# Altium schematic symbol library Power_Inductor.SchLib: 38 symbols
Pins are listed as number, name and electrical type; pins without a type are passive.

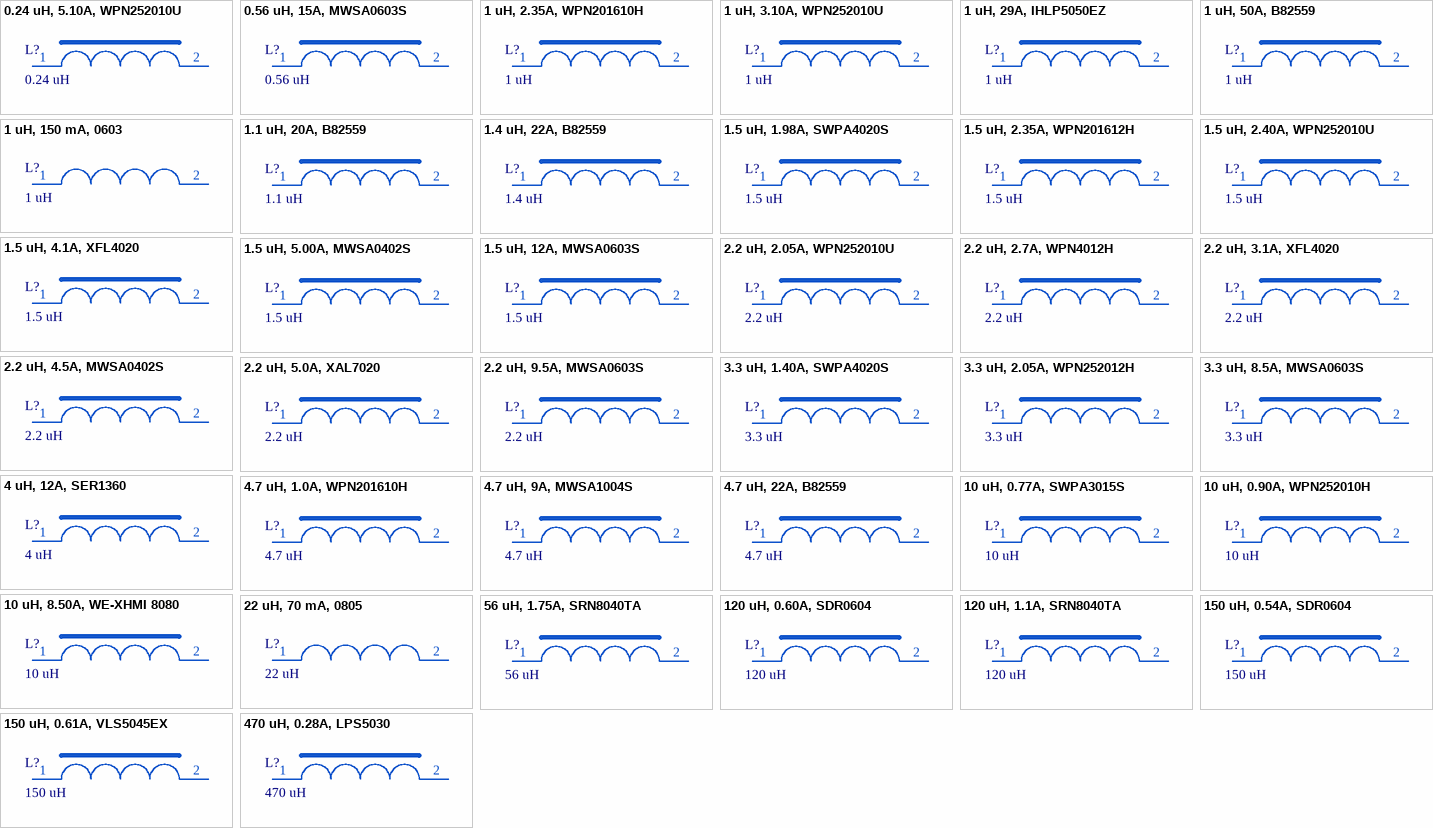
[diagram p0: symbols 0.24 uH, 5.10A, WPN252010U to 470 uH, 0.28A, LPS5030]

## 0.24 uH, 5.10A, WPN252010U
designator L?, comment 0.24 uH
Wire Wound Molded SMD Power Inductor; PartNumber: WPN252010UR24MT; Manufacturer: Sunlord; RDC: 0.021 Ohm; Irms  Typ: 5.10 A; Isat  Typ: 10.00 A; Value: 0.24 uH; Package: 2.5mm x 2mm; ItemType: Inductor; ItemSubType: Power Inductor; Mounting: SMD
footprint WPN252010U
pins: 1, 2

## 0.56 uH, 15A, MWSA0603S
designator L?, comment 0.56 uH
Wire Wound Molded SMD Power Inductor; PartNumber: MWSA0603S-R56MT; Manufacturer: Sunlord; RDC: 4.5 mOhm; Irms  Max: 15.00 A; Irms  Typ: 16.50 A; Isat  Max: 14.40 A; Isat  Typ: 18.00 A; Marking: R56; Value: 0.56 uH; Package: 6.6mm x 7mm; ItemType: Inductor; ItemSubType: Power Inductor; Mounting: SMD
footprint MWSA0603S
pins: 1, 2

## 1 uH, 2.35A, WPN201610H
designator L?, comment 1 uH
Wire Wound Molded SMD Power Inductor; PartNumber: WPN201610H1R0MT; Manufacturer: Sunlord; RDC: 0.075 Ohm; Irms  Typ: 2.35 A; Isat  Typ: 3.85 A; Value: 1 uH; Package: 2mm x 1.6mm; ItemType: Inductor; ItemSubType: Power Inductor; Mounting: SMD
footprint WPN201610H
pins: 1, 2

## 1 uH, 3.10A, WPN252010U
designator L?, comment 1 uH
Wire Wound Molded SMD Power Inductor; PartNumber: WPN252010U1R0MT; Manufacturer: Sunlord; RDC: 0.05 Ohm; Irms  Typ: 3.10 A; Isat  Typ: 4.10 A; Value: 1 uH; Package: 2.5mm x 2mm; ItemType: Inductor; ItemSubType: Power Inductor; Mounting: SMD
footprint WPN252010U
pins: 1, 2

## 1 uH, 29A, IHLP5050EZ
designator L?, comment 1 uH
Low Profile, High Current IHLP Inductor; PartNumber: IHLP5050EZER1R0M01; Manufacturer: Vishay; RDC: 2.1 mOhm; Irms  Typ: 29.00 A; Isat  Typ: 50.00 A; Marking: 1R0; ItemSubType: Power Inductor; Value: 1 uH; Package: 12.9mm x 13.2mm; ItemType: Inductor; Mounting: SMD
footprint IHLP-5050EZ-01 (Vishay High Current IHLP Inductors)
pins: 1, 2

## 1 uH, 50A, B82559
designator L?, comment 1 uH
ERU 20, helically wound chokes; PartNumber: B82559A2102A020; Manufacturer: EPCOS; RDC: 0.65 mOhm; Isat  Typ: 50 A; ItemType: Inductor; ItemSubType: Power Inductor; Value: 1 uH; Package: 22mm x 22.3mm; Mounting: SMD
footprint B82559A2102A020 (EPCOS B82559A2102A020)
pins: 1, 2

## 1 uH, 150 mA, 0603
designator L?, comment 1 uH
Chip Coil 0603; PartNumber: LQM18FN1R0M00D; Manufacturer: Murata; RDC: 0.2 Ohm; Irms  Typ: 150 mA; ItemType: Inductor; ItemSubType: Power Inductor; Value: 1 uH; Package: 0603; Mounting: SMD
footprint L0603_LQM (RF Inductor 0603)
pins: 1, 2

## 1.1 uH, 20A, B82559
designator L?, comment 1.1 uH
ERU 13, helically wound chokes; PartNumber: B82559A0112A013; Manufacturer: EPCOS; RDC: 1.72 mOhm; Isat  Typ: 20 A; ItemType: Inductor; ItemSubType: Power Inductor; Value: 1.1 uH; Package: 10.7mm x 13mm; Mounting: SMD
footprint B82559A0112A013 (EPCOS B82559A0112A013)
pins: 1, 2

## 1.4 uH, 22A, B82559
designator L?, comment 1.4 uH
ERU 13, helically wound chokes; PartNumber: B82559A0142A013; Manufacturer: EPCOS; RDC: 1.50 mOhm; Isat  Typ: 22 A; ItemType: Inductor; ItemSubType: Power Inductor; Value: 1.4 uH; Package: 10.7mm x 13mm; Mounting: SMD
footprint B82559A0142A013 (EPCOS B82559A0142A013)
pins: 1, 2

## 1.5 uH, 1.98A, SWPA4020S
designator L?, comment 1.5 uH
Wire Wound Molded SMD Power Inductor; PartNumber: SWPA4020S1R5NT; Manufacturer: Sunlord; RDC: 3.5 mOhm; Irms  Max: 1.98 A; Irms  Typ: 3.00 A; Isat  Max: 4.45 A; Isat  Typ: 4.90 A; Marking: 1R5; Value: 1.5 uH; Package: 4mm x 4mm; ItemType: Inductor; ItemSubType: Power Inductor; Mounting: SMD
footprint SWPA4020S
pins: 1, 2

## 1.5 uH, 2.35A, WPN201612H
designator L?, comment 1.5 uH
Wire Wound Molded SMD Power Inductor; PartNumber: WPN201612H1R5MT; Manufacturer: Sunlord; RDC: 0.091 Ohm; Irms  Typ: 2.35 A; Isat  Typ: 2.45 A; Value: 1.5 uH; Package: 2mm x 1.6mm; ItemType: Inductor; ItemSubType: Power Inductor; Mounting: SMD
footprint WPN201612H
pins: 1, 2

## 1.5 uH, 2.40A, WPN252010U
designator L?, comment 1.5 uH
Wire Wound Molded SMD Power Inductor; PartNumber: WPN252010U1R5MT; Manufacturer: Sunlord; RDC: 0.076 Ohm; Irms  Typ: 2.40 A; Isat  Typ: 3.00 A; Value: 1.5 uH; Package: 2.5mm x 2mm; ItemType: Inductor; ItemSubType: Power Inductor; Mounting: SMD
footprint WPN252010U
pins: 1, 2

## 1.5 uH, 4.1A, XFL4020
designator L?, comment 1.5 uH
Wire Wound Molded SMD Power Inductor; PartNumber: XFL4020-152ME; Manufacturer: Coilcraft; RDC: 14.40 mOhm; Irms  Typ: 6.7 A; Isat  Typ: 4.1 A; Marking: 152; Value: 1.5 uH; Package: 4mm x 4mm; ItemType: Inductor; ItemSubType: Power Inductor; Mounting: SMD
footprint XFL4020 (Shielded Power Inductor)
pins: 1, 2

## 1.5 uH, 5.00A, MWSA0402S
designator L?, comment 1.5 uH
Wire Wound Molded SMD Power Inductor; PartNumber: MWSA0402S-1R5MT; Manufacturer: Sunlord; RDC: 46 mOhm; Irms  Typ: 5.00 A; Isat  Typ: 5.50 A; Marking: 1R5; Value: 1.5 uH; Package: 4.2mm x 4.4mm; ItemType: Inductor; ItemSubType: Power Inductor; Mounting: SMD
footprint MWSA0402S
pins: 1, 2

## 1.5 uH, 12A, MWSA0603S
designator L?, comment 1.5 uH
Wire Wound Molded SMD Power Inductor; PartNumber: MWSA0603S-1R5MT; Manufacturer: Sunlord; RDC: 12.1 mOhm; Irms  Typ: 12.00 A; Marking: 1R5; Value: 1.5 uH; Package: 6.6mm x 7mm; Isat  Typ: 12.00 A; ItemType: Inductor; ItemSubType: Power Inductor; Mounting: SMD
footprint MWSA0603S
pins: 1, 2

## 2.2 uH, 2.05A, WPN252010U
designator L?, comment 2.2 uH
Wire Wound Molded SMD Power Inductor; PartNumber: WPN252010U2R2MT; Manufacturer: Sunlord; RDC: 0.096 Ohm; Irms  Typ: 2.05 A; Isat  Typ: 2.60 A; Value: 2.2 uH; Package: 2.5mm x 2mm; ItemType: Inductor; ItemSubType: Power Inductor; Mounting: SMD
footprint WPN252010U
pins: 1, 2

## 2.2 uH, 2.7A, WPN4012H
designator L?, comment 2.2 uH
Wire Wound Molded SMD Power Inductor; PartNumber: WPN4012H2R2MT; Manufacturer: Sunlord; RDC: 79 mOhm; Irms  Typ: 3.10 A; Isat  Typ: 3.30 A; Marking: 2R2; Value: 2.2 uH; Package: 4x4mm; ItemType: Inductor; ItemSubType: Power Inductor; Mounting: SMD
footprint WPN4012H (Wire Wound SMD Power Inductors WPN Series)
pins: 1, 2

## 2.2 uH, 3.1A, XFL4020
designator L?, comment 2.2 uH
Wire Wound Molded SMD Power Inductor; PartNumber: XFL4020-222ME; Manufacturer: Coilcraft; RDC: 21.35 mOhm; Irms  Typ: 6.0 A; Isat  Typ: 3.1 A; Marking: 222; Value: 2.2 uH; Package: 4mm x 4mm; ItemType: Inductor; ItemSubType: Power Inductor; Mounting: SMD
footprint XFL4020 (Shielded Power Inductor)
pins: 1, 2

## 2.2 uH, 4.5A, MWSA0402S
designator L?, comment 2.2 uH
Wire Wound Molded SMD Power Inductor; PartNumber: MWSA0402S-2R2MT; Manufacturer: Sunlord; RDC: 58 mOhm; Irms  Typ: 4.50 A; Isat  Typ: 5.00 A; Marking: 2R2; Value: 2.2 uH; Package: 4.2mm x 4.4mm; ItemType: Inductor; ItemSubType: Power Inductor; Mounting: SMD
footprint MWSA0402S
pins: 1, 2

## 2.2 uH, 5.0A, XAL7020
designator L?, comment 2.2 uH
Wire Wound Molded SMD Power Inductor; PartNumber: XAL7020-222ME; Manufacturer: Coilcraft; RDC: 28.70 mOhm; Irms  Typ: 5.0 A; Isat  Typ: 13.6 A; Marking: 222; Value: 2.2 uH; Package: 7.5mm x 7.5mm; ItemType: Inductor; ItemSubType: Power Inductor; Mounting: SMD
footprint XAL7020 (Shielded Power Inductor)
pins: 1, 2

## 2.2 uH, 9.5A, MWSA0603S
designator L?, comment 2.2 uH
Wire Wound Molded SMD Power Inductor; PartNumber: MWSA0603S-2R2MT; Manufacturer: Sunlord; RDC: 15 mOhm; Irms  Typ: 9.50 A; Isat  Typ: 10.00 A; Marking: 2R2; Value: 2.2 uH; Package: 6.6mm x 7mm; ItemType: Inductor; ItemSubType: Power Inductor; Mounting: SMD
footprint MWSA0603S
pins: 1, 2

## 3.3 uH, 1.40A, SWPA4020S
designator L?, comment 3.3 uH
Wire Wound Molded SMD Power Inductor; PartNumber: SWPA4020S3R3MT; Manufacturer: Sunlord; RDC: 7 mOhm; Irms  Max: 1.40 A; Irms  Typ: 2.50 A; Isat  Max: 2.80 A; Isat  Typ: 3.00 A; Value: 3.3 uH; Package: 4mm x 4mm; ItemType: Inductor; ItemSubType: Power Inductor; Mounting: SMD
footprint SWPA4020S
pins: 1, 2

## 3.3 uH, 2.05A, WPN252012H
designator L?, comment 3.3 uH
Wire Wound Molded SMD Power Inductor; PartNumber: WPN252012H3R3MT; Manufacturer: Sunlord; RDC: 0.163 Ohm; Irms  Typ: 2.05 A; Isat  Typ: 2.10 A; Value: 3.3 uH; Package: 2.5mm x 2mm; ItemType: Inductor; ItemSubType: Power Inductor; Mounting: SMD
footprint WPN252012H
pins: 1, 2

## 3.3 uH, 8.5A, MWSA0603S
designator L?, comment 3.3 uH
Wire Wound Molded SMD Power Inductor; PartNumber: MWSA0603S-3R3MT; Manufacturer: Sunlord; RDC: 22 mOhm; Irms  Typ: 8.50 A; Isat  Typ: 9.50 A; Marking: 3R3; Value: 3.3 uH; Package: 6.6mm x 7mm; ItemType: Inductor; ItemSubType: Power Inductor; Mounting: SMD
footprint MWSA0603S
pins: 1, 2

## 4 uH, 12A, SER1360
designator L?, comment 4 uH
Shielded Power Inductor SER1360 series; PartNumber: SER1360-402KL; Manufacturer: Coilcraft; RDC: 6.05 mOhm; Isat  Typ: 12 A; Value: 4 uH; Package: 12.6mm x 12.7mm; ItemType: Inductor; ItemSubType: Power Inductor; Mounting: SMD
footprint SER1360 (Coilcraft SER1360 Series)
pins: 1, 2

## 4.7 uH, 1.0A, WPN201610H
designator L?, comment 4.7 uH
Wire Wound Molded SMD Power Inductor; PartNumber: WPN201610H4R7MT; Manufacturer: Sunlord; RDC: 0.075 Ohm; Irms  Typ: 1.0 A; Isat  Typ: 1.5 A; Value: 4.7 uH; Package: 2mm x 1.6mm; ItemType: Inductor; ItemSubType: Power Inductor; Mounting: SMD
footprint WPN201610H
pins: 1, 2

## 4.7 uH, 9A, MWSA1004S
designator L?, comment 4.7 uH
Wire Wound Molded SMD Power Inductor; PartNumber: MWSA1004S-4R7MT; Manufacturer: Sunlord; RDC: 20 mOhm; Irms  Typ: 9.00 A; Isat  Typ: 13.00 A; Marking: 4R7; Value: 4.7 uH; Package: 10mm x 11.5mm; ItemType: Inductor; ItemSubType: Power Inductor; Mounting: SMD
footprint MWSA1004S
pins: 1, 2

## 4.7 uH, 22A, B82559
designator L?, comment 4.7 uH
ERU 20, helically wound chokes; PartNumber: B82559A4472A020; Manufacturer: EPCOS; RDC: 2.15 mOhm; Isat  Typ: 22 A; ItemType: Inductor; ItemSubType: Power Inductor; Value: 4.7 uH; Package: 22mm x 22.3mm; Mounting: SMD
footprint B82559A4472A020 (EPCOS B82559A4472A020)
pins: 1, 2

## 10 uH, 0.77A, SWPA3015S
designator L?, comment 10 uH
Wire Wound Molded SMD Power Inductor; PartNumber: SWPA3015S100MT; Manufacturer: Sunlord; RDC: 0.25 Ohm; Irms  Typ: 0.77 A; Isat  Typ: 0.72 A; Marking: 100; Value: 10 uH; Package: 3mm x 3mm; ItemType: Inductor; ItemSubType: Power Inductor; Mounting: SMD
footprint SWPA3015S
pins: 1, 2

## 10 uH, 0.90A, WPN252010H
designator L?, comment 10 uH
Wire Wound Molded SMD Power Inductor; PartNumber: WPN252010H100MT; Manufacturer: Sunlord; RDC: 0.435 Ohm; Irms  Typ: 0.90 A; Isat  Typ: 1.00 A; Value: 10 uH; Package: 2.5mm x 2mm; ItemType: Inductor; ItemSubType: Power Inductor; Mounting: SMD
footprint WPN252010H
pins: 1, 2

## 10 uH, 8.50A, WE-XHMI 8080
designator L?, comment 10 uH
WE-XHMI SMT Power Inductor, size 8080, 10μH, 8.5A, 20.9mΩ; PartNumber: 74439358100; Manufacturer: Würth Elektronik; RDC: 20.9 mOhm; Irms  Typ: 8.50 A; Isat  Typ: 13.50 A; Value: 10 uH; Package: 8.3mm x 8.8mm; ItemType: Inductor; ItemSubType: Power Inductor; Mounting: SMD
footprint WE-XHMI_8080 (SMT Power Inductor, 2-Leads, body 8.8x8.3mm)
pins: 1, 2

## 22 uH, 70 mA, 0805
designator L?, comment 22 uH
Chip Coil 0805; PartNumber: MLZ2012N220LT000; Manufacturer: TDK; RDC: 0.67 Ohm; Isat  Typ: 70 mA; ItemType: Inductor; ItemSubType: Power Inductor; Value: 22 uH; Package: 0805; Mounting: SMD
footprint MLZ2012 (Chip Inductor MLZ2012series)
pins: 1, 2

## 56 uH, 1.75A, SRN8040TA
designator L?, comment 56 uH
Semi-shielded SMD Power Inductor SRN8040TA Series; PartNumber: SRN8040TA-560M; Manufacturer: Bourns; RDC: 0.16 Ohm; Irms  Typ: 1.75 A; Isat  Typ: 1.90 A; Value: 56 uH; Package: 8mm x 8mm; ItemType: Inductor; ItemSubType: Power Inductor; Mounting: SMD
footprint SRN8040TA (Semi-shielded Power Inductors SRN8040TA Series, H=3.7mm)
pins: 1, 2

## 120 uH, 0.60A, SDR0604
designator L?, comment 120 uH
Wire Wound Molded SMD Power Inductor; PartNumber: SDR0604-121KL; Manufacturer: Bourns; RDC: 0.93 Ohm; Irms  Max: 0.60 A; Isat  Max: 0.48 A; Marking: 121; Value: 120 uH; Package: 5.8mm x 6mm; ItemType: Inductor; ItemSubType: Power Inductor; Mounting: SMD
footprint SDR0604 (Inductors SDR0604 series)
pins: 1, 2

## 120 uH, 1.1A, SRN8040TA
designator L?, comment 120 uH
Semi-shielded SMD Power Inductor SRN8040TA Series; PartNumber: SRN8040TA-121M; Manufacturer: Bourns; RDC: 0.35 Ohm; Irms  Typ: 1.10 A; Isat  Typ: 1.30 A; Value: 120 uH; Package: 8mm x 8mm; ItemType: Inductor; ItemSubType: Power Inductor; Mounting: SMD
footprint SRN8040TA (Semi-shielded Power Inductors SRN8040TA Series, H=3.7mm)
pins: 1, 2

## 150 uH, 0.54A, SDR0604
designator L?, comment 150 uH
Wire Wound Molded SMD Power Inductor; PartNumber: SDR0604-151KL; Manufacturer: Bourns; RDC: 1.10 Ohm; Irms  Max: 0.54 A; Isat  Max: 0.40 A; Marking: 151; Value: 150 uH; Package: 5.8mm x 6mm; ItemType: Inductor; ItemSubType: Power Inductor; Mounting: SMD
footprint SDR0604 (Inductors SDR0604 series)
pins: 1, 2

## 150 uH, 0.61A, VLS5045EX
designator L?, comment 150 uH
Wire Wound Molded SMD Power Inductor; PartNumber: VLS5045EX-151M-H; Manufacturer: TDK; RDC: 0.73 Ohm; Irms  Max: 0.61 A; Isat  Max: 0.56 A; Marking: R56; Value: 150 uH; Package: 5mm x 5.3mm; ItemType: Inductor; ItemSubType: Power Inductor; Mounting: SMD
footprint VLS5045EX-H (Inductors VLS-EX-H series)
pins: 1, 2

## 470 uH, 0.28A, LPS5030
designator L?, comment 470 uH
Shielded Power Inductor; PartNumber: LPS5030-474MRB; Manufacturer: Coilcraft; RDC: 2.8 Ohm; Irms  Typ: 0.28 A; Isat  Typ: 0.146 A; Value: 470 uH; Package: 4.8mm x 4.8mm; ItemType: Inductor; ItemSubType: Power Inductor; Mounting: SMD
footprint LPS5030
pins: 1, 2